# Altium footprint library Traco_THM10-2411WI.PcbLib: 1 footprints
Each footprint in its own frame and in the unit in brackets; x right, y up, seen from the top. Pads: shape width x height; smd on the part's side, far side on the other; paste and mask are expansions set on the pad; w line width, h text height; cw(c..) or ccw(c..) is an arc to the next point about the centre after c.
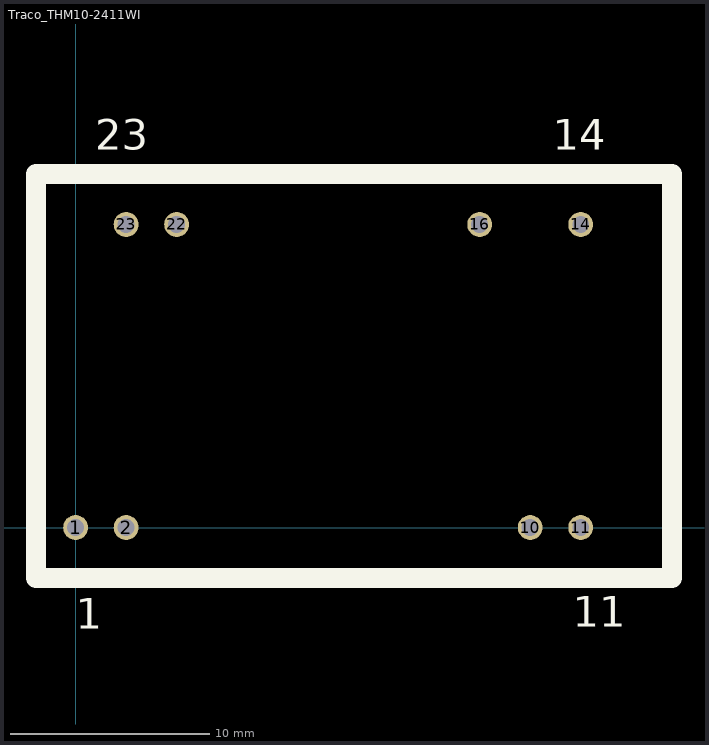
[diagram p0: the footprint, top view; thin cyan lines are the x and y axes]

## Traco_THM10-2411WI [mm]
pads (8):
  round 1.25 hole 0.85: 1(0,0) 2(2.54,0) 10(22.86,0) 11(25.4,0) 14(25.4,15.24) 16(20.32,15.24) 22(5.08,15.24) 23(2.54,15.24)
Top Overlay:
  lines w1: -2,-2.54 30,-2.54 30,17.78 -2,17.78 -2,-2.54
  text "23" at 1,19 h1.52
  text "14" at 24,19 h1.52
  text "11" at 25,-5 h1.52
  text "1" at 0,-5.08 h1.52
3D body "thm10wi_3d_drawing.stp": height 10.2, standoff -3.8, extent -1.9,-2.15 29.9,18.15